# EAGLE library part PINHD-3X8 (library pinhead)
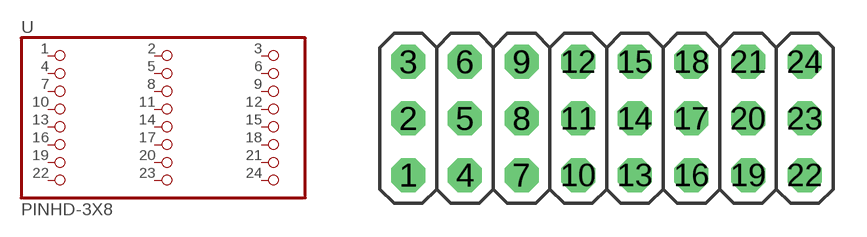
[diagram p0: symbol with the pads of 3X8; footprint 3X8]

Designator prefix -

## PINHD-3X8  [3X8]
1  1  pas
2  2  pas
3  3  pas
4  4  pas
5  5  pas
6  6  pas
7  7  pas
8  8  pas
9  9  pas
10  10  pas
11  11  pas
12  12  pas
13  13  pas
14  14  pas
15  15  pas
16  16  pas
17  17  pas
18  18  pas
19  19  pas
20  20  pas
21  21  pas
22  22  pas
23  23  pas
24  24  pas

## Footprint 3X8 (pad centres in mm)
drill 1.016 octagon: 1 -8.89,0; 2 -8.89,2.54; 3 -8.89,5.08; 4 -6.35,0; 5 -6.35,2.54; 6 -6.35,5.08; 7 -3.81,0; 8 -3.81,2.54; 9 -3.81,5.08; 10 -1.27,0; 11 -1.27,2.54; 12 -1.27,5.08; 13 1.27,0; 14 1.27,2.54; 15 1.27,5.08; 16 3.81,0; 17 3.81,2.54; 18 3.81,5.08; 19 6.35,0; 20 6.35,2.54; 21 6.35,5.08; 22 8.89,0; 23 8.89,2.54; 24 8.89,5.08